# EAGLE library part DSPIC30F4011 (library systas0)
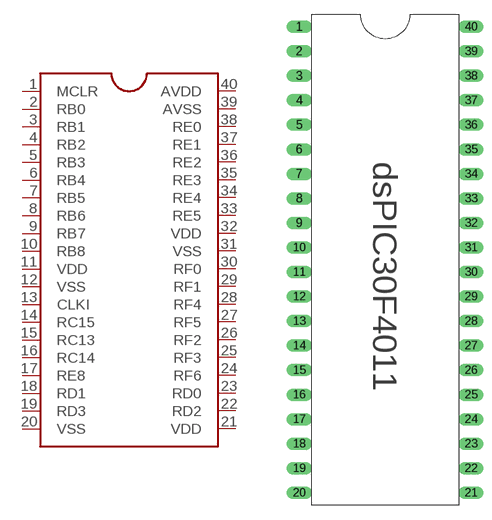
[diagram p10: symbol with the pads of DSPIC30F4011; footprint DSPIC30F4011]

Designator prefix -

## DSPIC30F4011  [DSPIC30F4011]
1  MCLR
2  RB0
3  RB1
4  RB2
5  RB3
6  RB4
7  RB5
8  RB6
9  RB7
10  RB8
11  VDD
12  VSS
13  CLKI
14  RC15
15  RC13
16  RC14
17  RE8
18  RD1
19  RD3
20  VSS
21  VDD
22  RD2
23  RD0
24  RF6
25  RF3
26  RF2
27  RF5
28  RF4
29  RF1
30  RF0
31  VSS
32  VDD
33  RE5
34  RE4
35  RE3
36  RE2
37  RE1
38  RE0
39  AVSS
40  AVDD

## Footprint DSPIC30F4011 (pad centres in mm)
drill 0.8 long: 1 -8.89,24.13; 2 -8.89,21.59; 3 -8.89,19.05; 4 -8.89,16.51; 5 -8.89,13.97; 6 -8.89,11.43; 7 -8.89,8.89; 8 -8.89,6.35; 9 -8.89,3.81; 10 -8.89,1.27; 11 -8.89,-1.27; 12 -8.89,-3.81; 13 -8.89,-6.35; 14 -8.89,-8.89; 15 -8.89,-11.43; 16 -8.89,-13.97; 17 -8.89,-16.51; 18 -8.89,-19.05; 19 -8.89,-21.59; 20 -8.89,-24.13; 21 8.89,-24.13; 22 8.89,-21.59; 23 8.89,-19.05; 24 8.89,-16.51; 25 8.89,-13.97; 26 8.89,-11.43; 27 8.89,-8.89; 28 8.89,-6.35; 29 8.89,-3.81; 30 8.89,-1.27; 31 8.89,1.27; 32 8.89,3.81; 33 8.89,6.35; 34 8.89,8.89; 35 8.89,11.43; 36 8.89,13.97; 37 8.89,16.51; 38 8.89,19.05; 39 8.89,21.59; 40 8.89,24.13